# Altium footprint library DIP778W43P254L2612H431Q20N.PcbLib: 1 footprints
Each footprint in its own frame and in the unit in brackets; x right, y up, seen from the top. Pads: shape width x height; smd on the part's side, far side on the other; paste and mask are expansions set on the pad; w line width, h text height; cw(c..) or ccw(c..) is an arc to the next point about the centre after c.
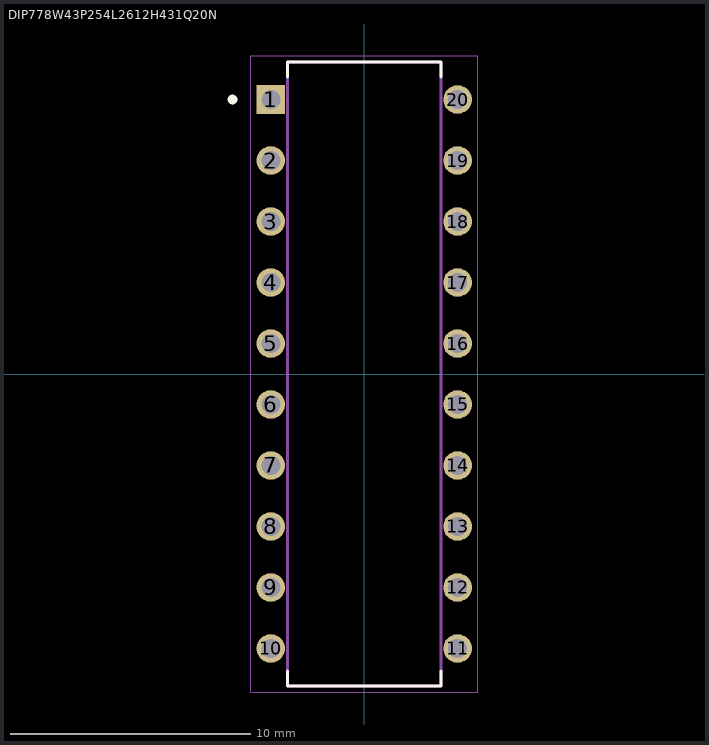
[diagram p0: the footprint, top view; thin cyan lines are the x and y axes]

## DIP778W43P254L2612H431Q20N [mm]
height 4.31
pads (20):
  rect 1.19x1.19 / inner round 1.19 / far side rect 1.19x1.19 hole 0.79: 1(-3.89,11.43)
  round 1.19 hole 0.79: 2(-3.89,8.89) 3(-3.89,6.35) 4(-3.89,3.81) 5(-3.89,1.27) 6(-3.89,-1.27) 7(-3.89,-3.81) 8(-3.89,-6.35) 9(-3.89,-8.89) 10(-3.89,-11.43) 11(3.89,-11.43) 12(3.89,-8.89) 13(3.89,-6.35) 14(3.89,-3.81) 15(3.89,-1.27) 16(3.89,1.27) 17(3.89,3.81) 18(3.89,6.35) 19(3.89,8.89) 20(3.89,11.43)
Top Overlay:
  circle w0.2: c-5.485,11.43 r0.1
  lines w0.127: -3.2,-12.375 -3.2,-13 3.2,-13 3.2,-12.375 ; -3.2,12.375 -3.2,13 3.2,13 3.2,12.375
Mechanical 13:
  circle w0.2: c-5.485,11.43 r0.1
  lines w0.127: -3.2,-13 3.2,-13 3.2,13 -3.2,13 -3.2,-13
Mechanical 15:
  lines w0.05: -4.735,-13.25 -4.735,13.25 4.735,13.25 4.735,-13.25 -4.735,-13.25
3D body "step_temp.STEP": height 4.31, standoff -3.6, extent -4.03,-13 4.03,13